# EAGLE library part MINI_PCIE_CONN (library sf-keyglove)
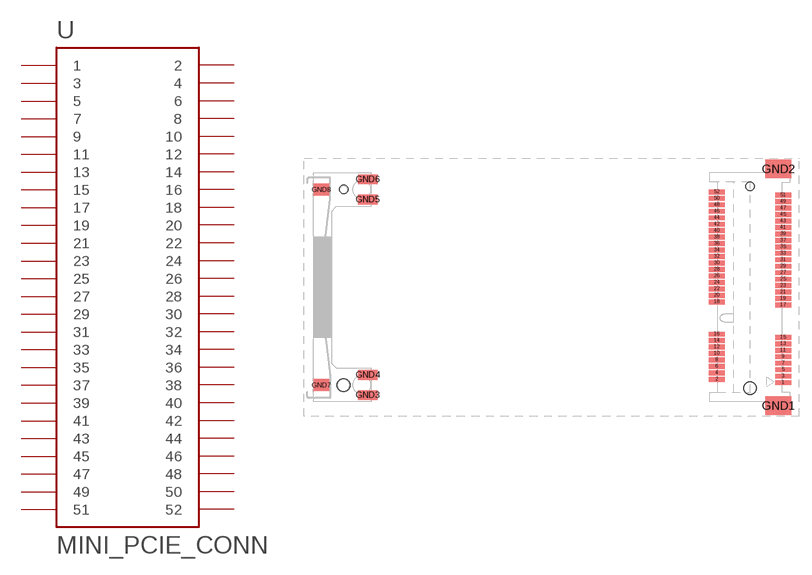
[diagram p3: symbol with the pads of MINI_PCIE_CONN; footprint MINI_PCIE_CONN]

Designator prefix -

## MINI_PCIE_CONN  [MINI_PCIE_CONN]
1  1
2  2
3  3
4  4
5  5
6  6
7  7
8  8
9  9
10  10
11  11
12  12
13  13
14  14
15  15
16  16
17  17
18  18
19  19
20  20
21  21
22  22
23  23
24  24
25  25
26  26
27  27
28  28
29  29
30  30
31  31
32  32
33  33
34  34
35  35
36  36
37  37
38  38
39  39
40  40
41  41
42  42
43  43
44  44
45  45
46  46
47  47
48  48
49  49
50  50
51  51
52  52

## Footprint MINI_PCIE_CONN (pad centres in mm)
smd 2 x 0.6: 1 29.1,-11.8; 2 20.9,-11.4; 3 29.1,-11; 4 20.9,-10.6; 5 29.1,-10.2; 6 20.9,-9.8; 7 29.1,-9.4; 8 20.9,-9; 9 29.1,-8.6; 10 20.9,-8.2; 11 29.1,-7.8; 12 20.9,-7.4; 13 29.1,-7; 14 20.9,-6.6; 15 29.1,-6.2; 16 20.9,-5.8; 17 29.1,-2.2; 18 20.9,-1.8; 19 29.1,-1.4; 20 20.9,-1; 21 29.1,-0.6; 22 20.9,-0.2; 23 29.1,0.2; 24 20.9,0.6; 25 29.1,1; 26 20.9,1.4; 27 29.1,1.8; 28 20.9,2.2; 29 29.1,2.6; 30 20.9,3; 31 29.1,3.4; 32 20.9,3.8; 33 29.1,4.2; 34 20.9,4.6; 35 29.1,5; 36 20.9,5.4; 37 29.1,5.8; 38 20.9,6.2; 39 29.1,6.6; 40 20.9,7; 41 29.1,7.4; 42 20.9,7.8; 43 29.1,8.2; 44 20.9,8.6; 45 29.1,9; 46 20.9,9.4; 47 29.1,9.8; 48 20.9,10.2; 49 29.1,10.6; 50 20.9,11; 51 29.1,11.4; 52 20.9,11.8
smd 3.2 x 2.3: GND1 28.5,-14.65; GND2 28.5,14.65
smd 2.4 x 1.2: GND3 -22.3,-13.35; GND4 -22.3,-10.85; GND5 -22.3,10.85; GND6 -22.3,13.35
smd 1.9 x 1.5: GND7 -28.05,-12.1; GND8 -28.05,12.1
hole 1.55 at 25,-12.5
hole 1.05 at 25,12.5
hole 1.55 at -25.3,-12.1
hole 1.05 at -25.3,12.1